# Altium footprint library TeensyFootprint.PcbLib: 1 footprints
Each footprint in its own frame and in the unit in brackets; x right, y up, seen from the top. Pads: shape width x height; smd on the part's side, far side on the other; paste and mask are expansions set on the pad; w line width, h text height; cw(c..) or ccw(c..) is an arc to the next point about the centre after c.
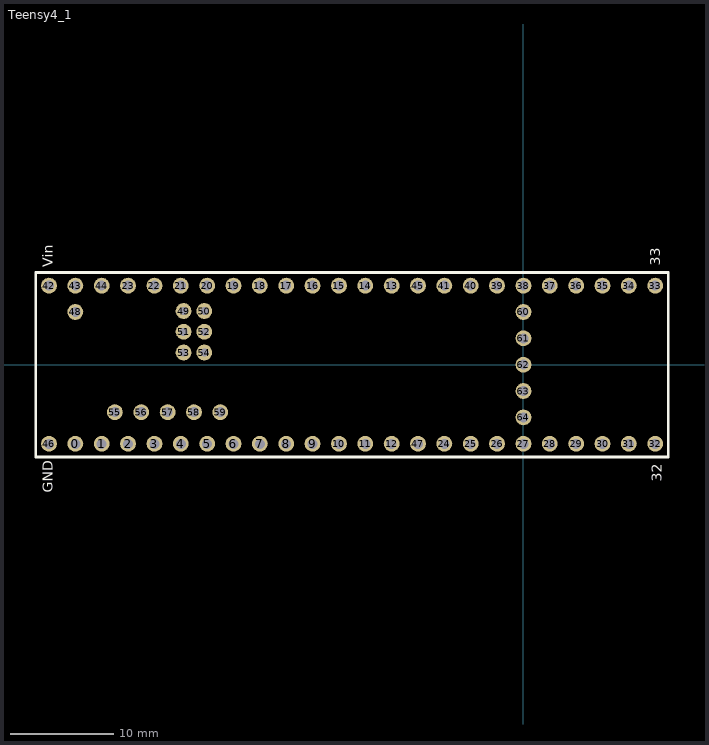
[diagram p0: the footprint, top view; thin cyan lines are the x and y axes]

## Teensy4_1 [mil] "Mircocontroller"
height 61.81
pads (65):
  round 60 hole 37.99: 0(-1700,-300) 1(-1600,-300) 2(-1500,-300) 3(-1400,-300) 4(-1300,-300) 5(-1200,-300) 6(-1100,-300) 7(-1000,-300) 8(-900,-300) 9(-800,-300) 10(-700,-300) 11(-600,-300) 12(-500,-300) 13(-500,300) 14(-600,300) 15(-700,300) 16(-800,300) 17(-900,300) 18(-1000,300) 19(-1100,300) 20(-1200,300) 21(-1300,300) 22(-1400,300) 23(-1500,300) 24(-300,-300) 25(-200,-300) 26(-100,-300) 27(0,-300) 28(100,-300) 29(200,-300) 30(300,-300) 31(400,-300) 32(500,-300) 33(500,300) 34(400,300) 35(300,300) 36(200,300) 37(100,300) 38(0,300) 39(-100,300) 40(-200,300) 41(-300,300) 42(-1800,300) 43(-1700,300) 44(-1600,300) 45(-400,300) 46(-1800,-300) 47(-400,-300) 48(-1700,200) 55(-1550,-180) 56(-1450,-180) 57(-1350,-180) 58(-1250,-180) 59(-1150,-180) 60(0,200) 61(0,100) 62(0,0) 63(0,-100) 64(0,-200)
  round 60 hole 30: 49(-1289.37,203.54) 50(-1210.63,203.54) 51(-1289.37,124.8) 52(-1210.63,124.8) 53(-1289.37,46.06) 54(-1210.63,46.06)
Top Overlay:
  lines w10: -1850,-350 550,-350 550,350 -1850,350 -1850,-350
  text "GND" at -1785,-485 h39.37
  text "32" at 525,-445 h39.37
  text "33" at 520,375 h39.37
  text "Vin" at -1785,370 h39.37